# Altium schematic symbol library lib_ic_CAP.SchLib: 15 symbols
Pins are listed as number, name and electrical type; pins without a type are passive.

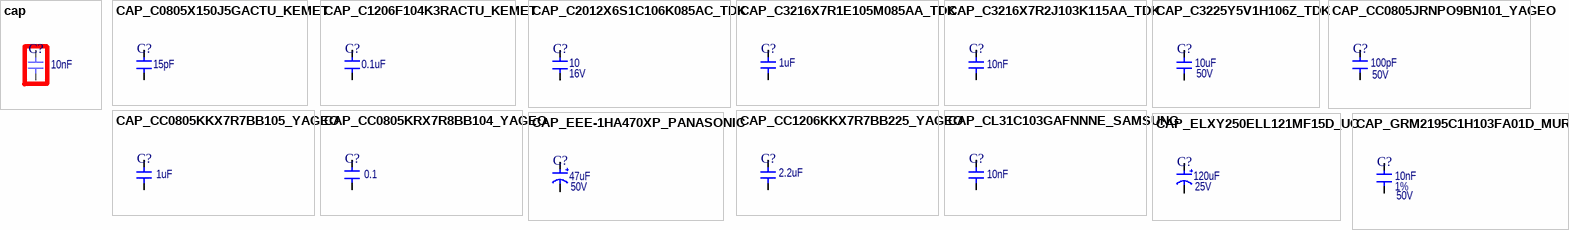
[diagram p0: symbols cap to CAP_GRM2195C1H103FA01D_MURATA]

## cap
designator C?  value 10nF  (hidden comment: *)
Manufacturer: Samsung; Part Number: CL31C103GAFNNNE; Tolerance: 2%; Voltage Rating: 25V; Supplier: *; Supplier Part No: *; Power Rating: *; BOM Populate: *; #Digikey: 1276-2830-1-ND
footprint CAPC2013X110N (Chip Capacitor, 0805, Body 2.0x1.3mm, IPC Medium Density)
pins: 1 T1, 2 T2

## CAP_C0805X150J5GACTU_KEMET
designator C?  value 15pF  (hidden comment: *)
CAP CER 15PF 50V NP0 0805; Manufacturer: Kemet; Manufacturer Part Number: C0805X150J5GACTU; Tolerance: 5%; Digikey Part Number: 399-7428-1-ND; Supplier: *; Power Rating: *; Voltage Rating: 50V; BOM Populate: *; Mouser Part Number: 80-C0805X150J5G
footprint CAPC2013X110N (Chip Capacitor, 0805, Body 2.0x1.3mm, IPC Medium Density)
pins: 1 T1, 2 T2

## CAP_C1206F104K3RACTU_KEMET
designator C?  value 0.1uF  (hidden comment: *)
CAP CER 0.1UF 25V X7R 1206; Manufacturer: Kemet; Manufacturer Part Number: C1206F104K3RACTU; Tolerance: 5%; Digikey Part Number: 399-5615-1-ND; Supplier: *; Power Rating: *; Voltage Rating: 25V; BOM Populate: *; Mouser Part Number: 80-C1206F104K3R
footprint CAPC3216X135N_B (Chip Capacitor, 1206, UL840 2mm, Body 3.2x1.6mm, IPC Medium Density)
pins: 1 T1, 2 T2

## CAP_C2012X6S1C106K085AC_TDK
designator C?  value 10  Voltage Rating: 16V  (hidden comment: *)
CAP CER 10UF 16V 10% X6S 0805; Manufacturer: TDK Corporation; Manufacturer Part Number: C2012X6S1C106K085AC; Supplier: *; Supplier Part No: 4321; Tolerance: 10%; Power Rating: *; BOM Populate: *; Digikey Part Number: 445-14483-1-ND; Mouser Part Number: 810-C2012X6S1C106K0C
footprint CAPC2013X110N (Chip Capacitor, 0805, Body 2.0x1.3mm, IPC Medium Density)
pins: 1 T1, 2 T2

## CAP_C3216X7R1E105M085AA_TDK
designator C?  value 1uF  (hidden comment: *)
1 µF, 25 V, Capacitores cerámicos, X7R, 1206 (3216 métrico), 0.126" L x 0.063" A (3.20 mm x 1.60 mm); Manufacturer: TDK; Manufacturer Part Number: C3216X7R1E105M085AA; Tolerance: 20%; Voltage Rating: 25V; Supplier: *; Supplier Part No: *; Power Rating: *; BOM Populate: *; Digikey Part Number: 445-4024-1-ND; Mouser Part Number: 810-C3216X7R1E105M-2
footprint CAPC3216X135N_B (Chip Capacitor, 1206, UL840 2mm, Body 3.2x1.6mm, IPC Medium Density)
pins: 1 T1, 2 T2

## CAP_C3216X7R2J103K115AA_TDK
designator C?  value 10nF  (hidden comment: *)
10000pF, 630 V, Capacitores cerámicos, X7R, 1206 (3216 métrico), 0.126" L x 0.063" A (3.20 mm x 1.60 mm); Manufacturer: TDK; Manufacturer Part Number: C3216X7R2J103K115AA; Tolerance: 10%; Voltage Rating: 630 V; Supplier: *; Supplier Part No: *; Power Rating: *; BOM Populate: *; Digikey Part Number: 445-2291-1-ND; Mouser Part Number: 810-C3216X7R2J103K
footprint CAPC3216X135N_B (Chip Capacitor, 1206, UL840 2mm, Body 3.2x1.6mm, IPC Medium Density)
pins: 1 T1, 2 T2

## CAP_C3225Y5V1H106Z_TDK
designator C?  value 10uF  Voltage Rating: 50V  (hidden comment: *)
10 µF, 50 V, Capacitores cerámicos, Y5V (F), 1210 (3225 métrico), 0.126" L x 0.098" A (3.20 mm x 2.50 mm); Manufacturer: TDK; Tolerance: 20%; Supplier: *; Supplier Part No: *; Power Rating: *; BOM Populate: *; Digikey Part Number: 445-3479-1-ND; Mouser Part Number: *; Manufacturer Part Number: *
footprint CAPC3225X135N (Chip Capacitor, 1210, Body 3.2x2.5mm, IPC Medium Density)
pins: 1 T1, 2 T2

## CAP_CC0805JRNPO9BN101_YAGEO
designator C?  value 100pF  Voltage Rating: 50V  (hidden comment: *)
CAP CER 100PF 50V NPO 0805; Manufacturer: Yageo; Manufacturer Part Number: CC0805JRNPO9BN101; Tolerance: 5%; Digikey Part Number: 311-1111-1-ND; Supplier: *; Power Rating: *; BOM Populate: *; Mouser Part Number: 603-CC805JRNPO9BN101
footprint CAPC2013X110N (Chip Capacitor, 0805, Body 2.0x1.3mm, IPC Medium Density)
pins: 1 T1, 2 T2

## CAP_CC0805KKX7R7BB105_YAGEO
designator C?  value 1uF  (hidden comment: *)
CAP CER 1UF 16V X7R 0805; Manufacturer: YAGEO; Manufacturer Part Number: CC0805KKX7R7BB105; Tolerance: 10%; Supplier: *; Supplier Part No: *; Power Rating: *; BOM Populate: *; Voltage Rating: 16V; Digikey Part Number: 311-1365-1-ND; Mouser Part Number: 603-CC805KKX7R7BB105
footprint CAPC2013X110N (Chip Capacitor, 0805, Body 2.0x1.3mm, IPC Medium Density)
pins: 1 T1, 2 T2

## CAP_CC0805KRX7R8BB104_YAGEO
designator C?  value 0.1  (hidden comment: *)
CAP CER 0.1UF 25V 10% X7R 0805; Manufacturer: Yageo; Manufacturer Part Number: CC0805KRX7R8BB104; Digikey Part Number: 311-1141-1-ND; Supplier: *; Tolerance: 10%; Power Rating: *; Voltage Rating: 25V; BOM Populate: *; Mouser Part Number: 603-CC805KRX7R8BB104
footprint CAPC2013X110N (Chip Capacitor, 0805, Body 2.0x1.3mm, IPC Medium Density)
pins: 1 T1, 2 T2

## CAP_CC1206KKX7R7BB225_YAGEO
designator C?  value 2.2uF  (hidden comment: *)
CAP CER 2.2UF 16V X7R 1206; Manufacturer: YAGEO; Manufacturer Part Number: CC1206KKX7R7BB225; Tolerance: 10%; Supplier: *; Supplier Part No: *; Power Rating: *; BOM Populate: *; Voltage Rating: 16V; Digikey Part Number: 311-1957-1-ND; Mouser Part Number: 603-CC126KKX7R7BB225
footprint CAPC3216X135N_B (Chip Capacitor, 1206, UL840 2mm, Body 3.2x1.6mm, IPC Medium Density)
pins: 1 T1, 2 T2

## CAP_CL31C103GAFNNNE_SAMSUNG
designator C?  value 10nF  (hidden comment: *)
CAP CER 10000PF 25V NP0 1206; Manufacturer: Samsung; Part Number: CL31C103GAFNNNE; Tolerance: 2%; Supplier: *; Supplier Part No: *; Power Rating: *; BOM Populate: *; Voltage Rating: 25V; Digikey Part Number: 1276-2830-1-ND; Mouser Part Number: *; Manufacturer Part Number: *
footprint CAPC3216X135N_B (Chip Capacitor, 1206, UL840 2mm, Body 3.2x1.6mm, IPC Medium Density)
pins: 1 T1, 2 T2

## CAP_EEE-1HA470XP_PANASONIC
designator C?  value 47uF  Voltage Rating: 50V  (hidden comment: *)
47µF 50V Aluminum Capacitors Radial, Can - SMD 2000 Hrs @ 85°C; Manufacturer: Panasonic; Manufacturer Part Number: EEE-1HA470XP; Tolerance: 20%; BOM Populate: *; Power Rating: *; Supplier Part No: *; Supplier: *; Digikey Part Number: PCE3929CT-ND; Petra Part No: *; Mouser Part Number: 667-EEE-1HA470XP
footprint CAPAE630770X770N (SMD Aluminum Electrolytic Capacitor; Body: 6.3x7.7 mm (DxL) // Source: UD series, Nichicon)
pins: 1, 2

## CAP_ELXY250ELL121MF15D_UC
designator C?  value 120uF  Voltage Rating: 25V  (hidden comment: *)
CAP ALUM 120UF 20% 25V RADIAL; Manufacturer Part Number: ELXY250ELL121MF15D; BOM Populate: *; Power Rating: *; Supplier Part No: *; Supplier: *; Digikey Part Number: 565-1791-ND; Tolerance: 20%; Petra Part No: *; Mouser Part Number: 661-ELXY250ELL121MF1
footprint CAPPRD250W50D630H1250 (Capacitor, Polarized Radial Diameter, 2.5 Lead Spacing, 0.5 Lead Width, 6.3 Diameter, 12.5 Height)
pins: 1, 2

## CAP_GRM2195C1H103FA01D_MURATA
designator C?  value 10nF  Tolerance: 1%  Voltage Rating: 50V  (hidden comment: *)
CAP CER 10000PF 50V NP0 0805; Manufacturer: Murata Electronics North America; Manufacturer Part Number: GRM2195C1H103FA01D; Digikey Part Number: 490-8295-1-ND; Supplier: *; Power Rating: *; BOM Populate: *; Mouser Part Number: 81-GRM2195C1H103FA1D
footprint CAPC2013X110N (Chip Capacitor, 0805, Body 2.0x1.3mm, IPC Medium Density)
pins: 1 T1, 2 T2